# Altium footprint library RayPCB20210502.PcbLib: 227 footprints (part 4 of 15)
Each footprint in its own frame and in the unit in brackets; x right, y up, seen from the top. Pads: shape width x height; smd on the part's side, far side on the other; paste and mask are expansions set on the pad; w line width, h text height; cw(c..) or ccw(c..) is an arc to the next point about the centre after c.
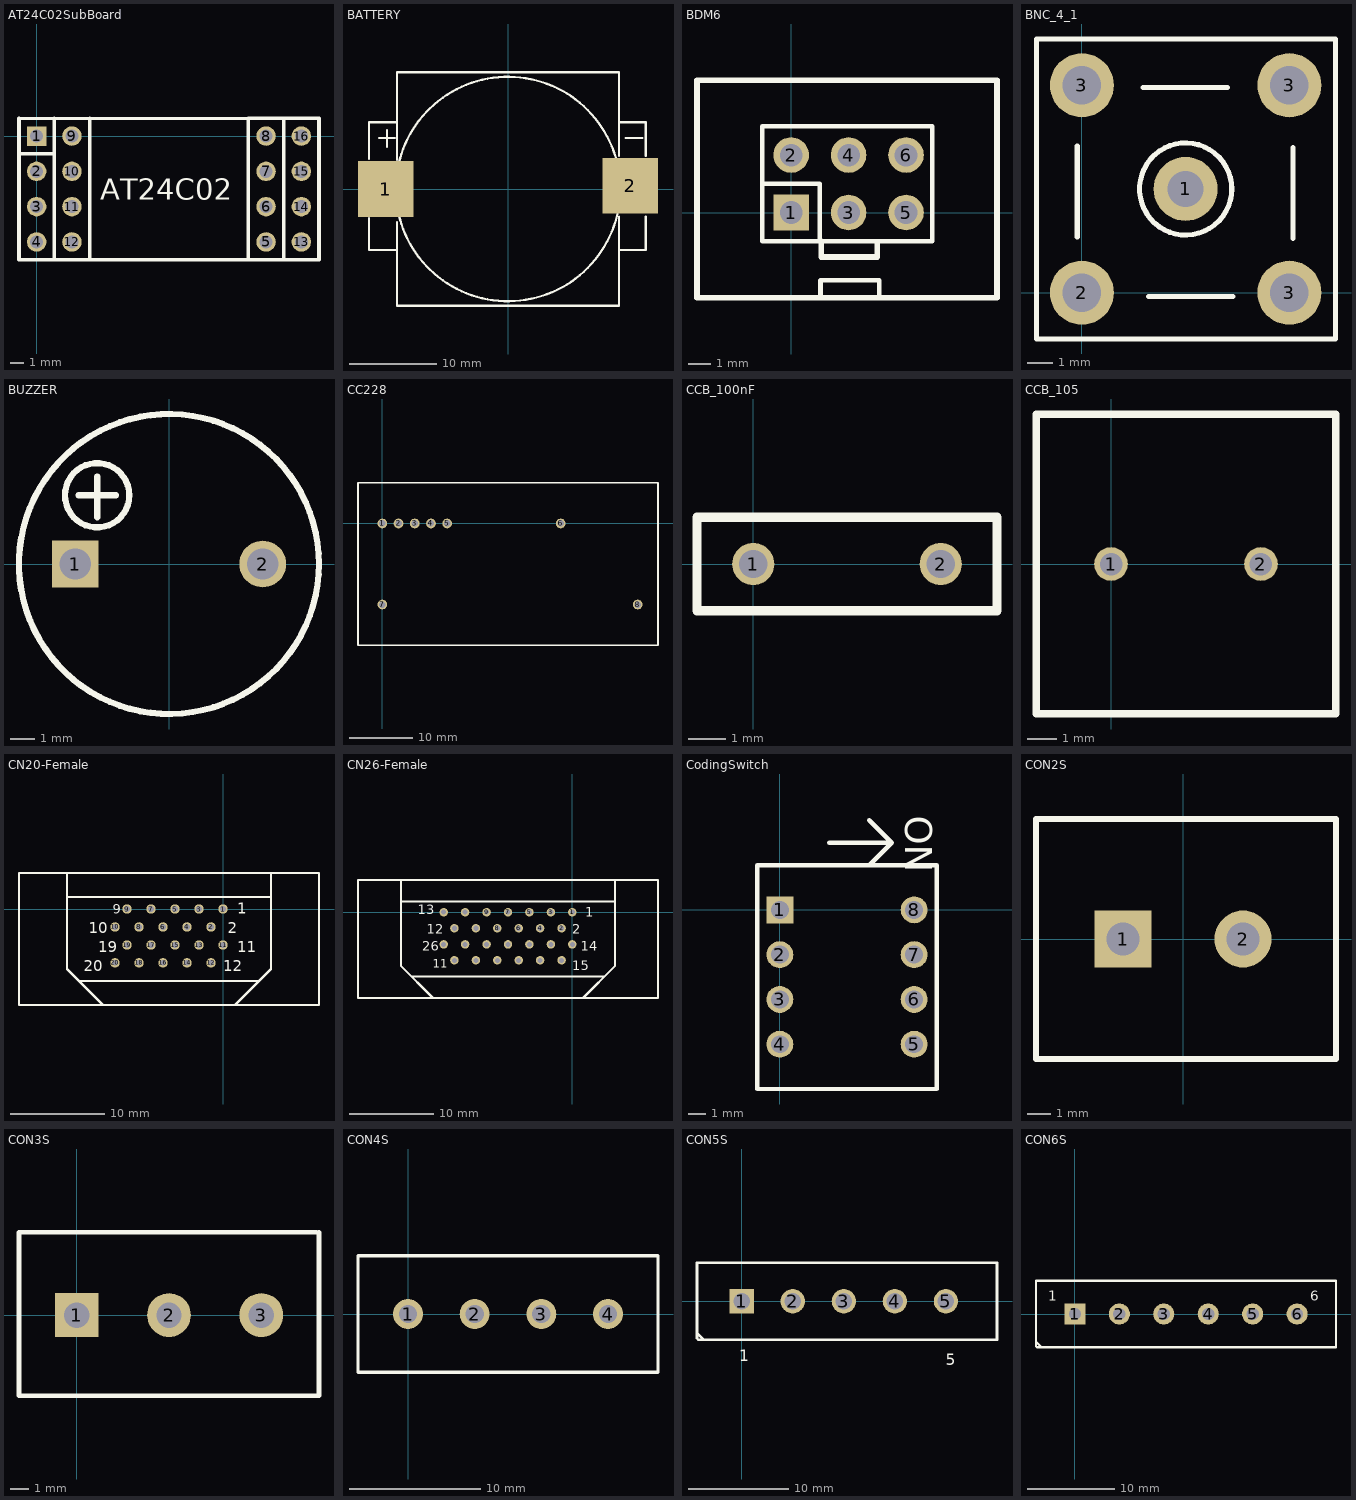
[diagram p3: the footprints below, top view; thin cyan lines are the x and y axes]

## AT24C02SubBoard [mil]
pads (16):
  rect 55x55 hole 37: 1(0,0)
  round 55 hole 37: 2(0,-100) 3(0,-200) 4(0,-300) 5(650,-300) 6(650,-200) 7(650,-100) 8(650,0) 9(100,0) 10(100,-100) 11(100,-200) 12(100,-300) 13(750,-300) 14(750,-200) 15(750,-100) 16(750,0)
Top Overlay:
  lines w8: 570,50 -50,50 600,50
  lines w10: -50,-50 50,-50 ; -50,50 -50,-350 600,-350 ; 50,-350 50,50 ; 150,-350 150,50 ; 700,-350 700,50 ; 600,-350 600,50 800,50 800,-350 600,-350
  text "AT24C02" at 180,-180 h60

## BATTERY [mil] "SO_2"
pads (2):
  rect 250x250 smd: 1(-550,0) 2(550,15)
Top Overlay:
  circle w10: c0,0 r505
  lines w10: -625,-130 -625,-275 -500,-275 ; -625,135 -625,300 -500,300 ; -580,230 -510,230 ; -545,190 -545,265 ; -500,-150 -500,-525 500,-525 500,-125 ; -500,130 -500,525 500,525 500,150 ; 500,300 620,300 620,150 ; 505,-275 620,-275 620,-125 ; 530,230 605,230

## BDM6 [mil]
pads (6):
  rect 62x62 hole 39.37: 1(0,0)
  round 62 hole 39.37: 2(0,100) 3(100,0) 4(100,100) 5(200,0) 6(200,100)
Top Overlay:
  lines w7.87: -50,50 50,50 50,-50 ; -50,-50 245.51,-50 245.51,150 -50,150 -50,-50
  lines w8: 51.18,-148.43 51.18,-117.72 153.54,-117.72 153.54,-148.43
  lines w10: 52.5,-50 52.5,-77.5 150,-77.5 150,-52.5 ; -163.78,-148.43 358.27,-148.43 358.27,230.31 -163.78,230.31 -163.78,-148.43

## BNC_4_1 [mm]
pads (5):
  round 2.5 hole 1.4: 1(4.05,4.05)
  round 2.5 hole 1.5: 2(0,0) 3(0,8.1) 3(8.1,0) 3(8.1,8.1)
Top Overlay:
  circle w0.2: c4.05,4.05 r1.8
  lines w0.2: -0.184,2.171 -0.184,5.727 ; 2.383,8.019 5.685,8.019 ; 2.593,-0.143 5.895,-0.143 ; 8.237,2.117 8.237,5.673
  lines w0.203: 9.906,-1.807 -1.778,-1.807 -1.778,9.906 9.906,9.906 9.906,-1.778
Mechanical 1:
  circle w0.025: c4.05,4.05 r0.2
  circle w0.025: c4,4 r1.05
  circle w0.025: c4,4 r1.8

## BUZZER [mil]
pads (2):
  rect 75x75 hole 50: 1(-150,0)
  round 75 hole 50: 2(150,0)
Top Overlay:
  circle w10: c-115,110 r51.48
  circle w10: c0,0 r240
  lines w10: -145,110 -85,110 ; -115,75 -115,140

## CC228 [mil]
pads (8):
  round 60 hole 40: 1(0,0) 2(100,0) 3(200,0) 4(300,0) 5(400,0) 6(1100,0) 7(0,-500) 8(1575,-500)
Top Overlay:
  lines w10: -150,-750 1700,-750 1700,250 -150,250 -150,-750

## CCB_100nF [mil]
pads (2):
  round 45 hole 30: 1(0,0) 2(200,0)
Top Overlay:
  lines w10: -60,-50 260,-50 260,50 -60,50 -60,-50

## CCB_105 [mil]
pads (2):
  round 45 hole 30: 1(0,0) 2(200,0)
Top Overlay:
  lines w10: -100,-200 300,-200 300,200 -100,200 -100,-200

## CN20-Female [mm]
pads (20):
  round 1 hole 0.6: 1(0,0) 2(-1.27,-1.9) 3(-2.54,0) 4(-3.81,-1.9) 5(-5.08,0) 6(-6.35,-1.9) 7(-7.62,0) 8(-8.89,-1.9) 9(-10.16,0) 10(-11.43,-1.9) 11(0,-3.81) 12(-1.27,-5.7) 13(-2.54,-3.81) 14(-3.81,-5.7) 15(-5.08,-3.81) 16(-6.35,-5.7) 17(-7.62,-3.81) 18(-8.89,-5.7) 19(-10.16,-3.81) 20(-11.43,-5.7)
Top Overlay:
  lines w0.254: -16.51,1.27 5.08,1.27 ; -16.51,3.81 -16.51,-6.35 -12.7,-10.16 ; -15.24,-7.62 3.81,-7.62 ; 1.27,-10.16 5.08,-6.35 5.08,3.81 ; -21.59,-10.16 -21.59,3.81 10.16,3.81 10.16,-10.16 -21.59,-10.16
  text "1" at 1.524,-0.508 h1.14
  text "9" at -11.684,-0.508 h1.02
  text "12" at 0,-6.604 h1.14
  text "20" at -14.732,-6.604 h1.14
  text "11" at 1.524,-4.572 h1.14
  text "19" at -13.208,-4.572 h1.14
  text "2" at 0.508,-2.54 h1.14
  text "10" at -14.224,-2.54 h1.14

## CN26-Female [mm]
pads (26):
  round 1 hole 0.6: 1(0,0) 2(-1.27,-1.9) 3(-2.54,0) 4(-3.81,-1.9) 5(-5.08,0) 6(-6.35,-1.9) 7(-7.62,0) 8(-8.89,-1.9) 9(-10.16,0) 10(-11.43,-1.9) 11(-12.7,0) 12(-13.97,-1.9) 13(-15.24,0) 14(0,-3.81) 15(-1.27,-5.7) 16(-2.54,-3.81) 17(-3.81,-5.7) 18(-5.08,-3.81) 19(-6.35,-5.7) 20(-7.62,-3.81) 21(-8.89,-5.7) 22(-10.16,-3.81) 23(-11.43,-5.7) 24(-12.7,-3.81) 25(-13.97,-5.7) 26(-15.24,-3.81)
Top Overlay:
  lines w0.254: -20.32,1.27 5.08,1.27 ; -20.32,3.81 -20.32,-6.35 -16.51,-10.16 ; -19.05,-7.62 3.81,-7.62 ; 1.27,-10.16 5.08,-6.35 5.08,3.81 ; -25.4,-10.16 10.16,-10.16 10.16,3.81 -25.4,3.81 -25.4,-10.16
  text "13" at -18.288,-0.254 h1.14
  text "2" at 0,-2.54 h1.14
  text "12" at -17.272,-2.54 h1.14
  text "26" at -17.78,-4.572 h1.14
  text "15" at 0,-6.858 h1.14
  text "14" at 1.016,-4.572 h1.14
  text "11" at -16.51,-6.604 h1.02
  text "1" at 1.524,-0.508 h1.14

## CodingSwitch [mil]
pads (8):
  rect 60x60 hole 40: 1(0,0)
  round 60 hole 40: 2(0,-100) 3(0,-200) 4(0,-300) 5(300,-300) 6(300,-200) 7(300,-100) 8(300,0)
Top Overlay:
  lines w10: 110,150 250,150 ; 200,100 250,150 ; 200,200 250,150 ; -50,-400 -50,100 350,100 350,-400 -50,-400
  text "ON" at 280,210 h60

## CON2S [mil]
pads (2):
  rect 95x95 hole 55: 1(-100,0)
  round 95 hole 55: 2(100,0)
Top Overlay:
  lines w10: -245,-200 255,-200 255,200 -245,200 -245,-200

## CON3S [mil]
pads (3):
  rect 95x95 hole 55: 1(0,0)
  round 95 hole 55: 2(200,0) 3(400,0)
Top Overlay:
  lines w10: 520,180 -125,180 -125,-175 525,-175 525,180

## CON4S [mil]
pads (4):
  round 90 hole 55: 1(0,0) 2(200,0) 3(400,0) 4(600,0)
Top Overlay:
  lines w10: -150,-145 -150,-125 ; -150,-175 -150,175 750,175 750,-175 -150,-175

## CON5S [mil]
pads (5):
  rect 95x95 hole 65: 1(0,0)
  round 95 hole 65: 2(200,0) 3(400,0) 4(600,0) 5(800,0)
Top Overlay:
  lines w10: -175,-105 -175,-125 -150,-150 ; -175,-145 -175,150 1000,150 1000,-150 -170,-150 -175,-145
  text "1" at -10,-235 h45
  text "5" at 800,-250 h45

## CON6S [mil]
pads (6):
  rect 95x95 hole 55: 1(0,0)
  round 95 hole 55: 2(200,0) 3(400,0) 4(600,0) 5(800,0) 6(1000,0)
Top Overlay:
  lines w10: -175,-105 -175,-125 -150,-150 ; -175,-145 -170,-150 1175,-150 1175,150 -175,150 -175,-145
  text "6" at 1060,60 h45
  text "1" at -120,60 h45